# Altium schematic symbol library TC4S69F(TE85L,F) 1-CH Inverter.SchLib: 1 symbol
Pins are listed as number, name and electrical type; pins without a type are passive.

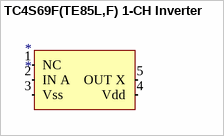
[diagram p0: symbol TC4S69F(TE85L,F) 1-CH Inverter]

## TC4S69F(TE85L,F) 1-CH Inverter
designator *
pins: 1 NC (in), 2 IN A (in), 3 Vss (in), 4 Vdd (in), 5 OUT X (in)